# EAGLE library part SKY12347-362LF (library Attenuator)
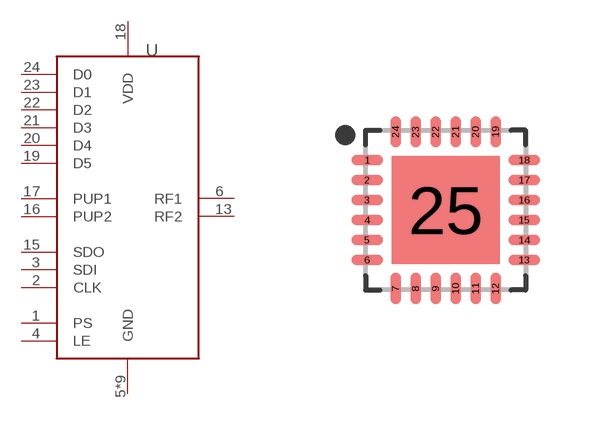
[diagram p0: symbol with the pads of QFN50P400X400X100-25T270N; footprint QFN50P400X400X100-25T270N]

Designator prefix U

## SKY12347-362LF  [QFN50P400X400X100-25T270N]
1  PS  in
2  CLK  in
3  SDI  in
4  LE  in
5  GND  pas
6  RF1
7  GND  pas
8  GND  pas
9  GND  pas
10  GND  pas
11  GND  pas
12  GND  pas
13  RF2
14  GND  pas
15  SDO  out
16  PUP2  in
17  PUP1  in
18  VDD  pwr
19  D5  in
20  D4  in
21  D3  in
22  D2  in
23  D1  in
24  D0  in
25  GND  pas

## Footprint QFN50P400X400X100-25T270N (pad centres in mm)
24-QFN, 0.50 mm pitch, 4.00 X 4.00 X 1.00 mm body, 2.70 X 2.70 mm thermal pad 24-pin QFN package with 0.50 mm pitch with body size 4.00 X 4.00 X 1.00 mm and thermal pad size 2.70 X 2.70 mm
smd 0.787 x 0.264: 1 -1.962,1.25; 2 -1.962,0.75; 3 -1.962,0.25; 4 -1.962,-0.25; 5 -1.962,-0.75; 6 -1.962,-1.25; 13 1.962,-1.25; 14 1.962,-0.75; 15 1.962,-0.25; 16 1.962,0.25; 17 1.962,0.75; 18 1.962,1.25
smd 0.264 x 0.787: 7 -1.25,-1.962; 8 -0.75,-1.962; 9 -0.25,-1.962; 10 0.25,-1.962; 11 0.75,-1.962; 12 1.25,-1.962; 19 1.25,1.962; 20 0.75,1.962; 21 0.25,1.962; 22 -0.25,1.962; 23 -0.75,1.962; 24 -1.25,1.962
smd 2.7 x 2.7: 25 0,0